# Altium footprint library AMG8854.PcbLib: 1 footprints
Each footprint in its own frame and in the unit in brackets; x right, y up, seen from the top. Pads: shape width x height; smd on the part's side, far side on the other; paste and mask are expansions set on the pad; w line width, h text height; cw(c..) or ccw(c..) is an arc to the next point about the centre after c.
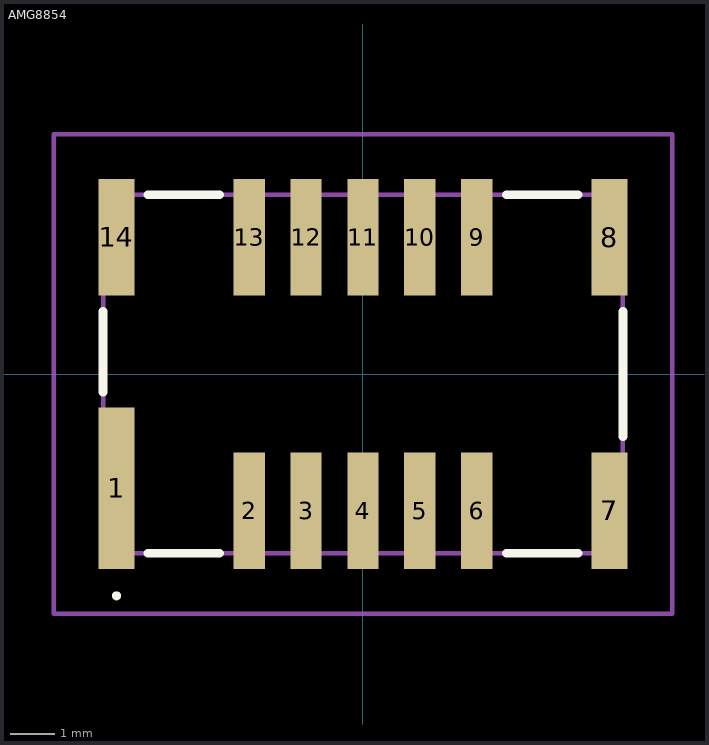
[diagram p0: the footprint, top view; thin cyan lines are the x and y axes]

## AMG8854 [mm]
pads (14):
  rect 0.8x3.6 smd: 1(-5.5,-2.55)
  rect 0.7x2.6 smd: 2(-2.54,-3.05) 3(-1.27,-3.05) 4(0,-3.05) 5(1.27,-3.05) 6(2.54,-3.05) 9(2.54,3.05) 10(1.27,3.05) 11(0,3.05) 12(-1.27,3.05) 13(-2.54,3.05)
  rect 0.8x2.6 smd: 7(5.5,-3.05) 8(5.5,3.05) 14(-5.5,3.05)
Top Overlay:
  lines w0.1: -5.5,-5 -5.5,-5 ; -5.5,-5 ccw(c-5.5,-4.95) -5.5,-4.9 ; -5.5,-5 cw(c-5.5,-4.95) -5.5,-4.9 ; -5.5,-4.9 -5.5,-4.9
  lines w0.2: -5.8,-0.4 -5.8,1.4 ; -4.8,-4 -3.2,-4 ; -4.8,4 -3.2,4 ; 3.2,-4 4.8,-4 ; 3.2,4 4.8,4 ; 5.8,-1.4 5.8,1.4
Mechanical 15:
  lines w0.1: -5.8,-4 5.8,-4 5.8,4 -5.8,4 -5.8,-4
Mechanical 20:
  lines w0.1: -6.9,-5.35 6.9,-5.35 6.9,5.35 -6.9,5.35 -6.9,-5.35